# Altium schematic symbol library Remoschlib.SchLib: 3 symbols
Pins are listed as number, name and electrical type; pins without a type are passive.

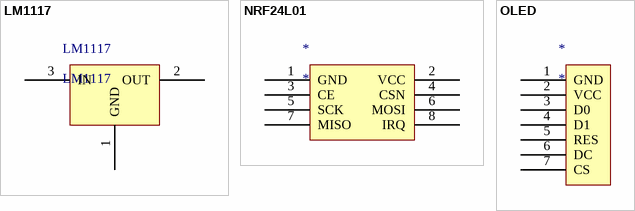
[diagram p0: symbols LM1117 to OLED]

## LM1117
designator LM1117
线性稳压3.3V
pins: 1 GND, 2 OUT, 3 IN

## NRF24L01
designator *
pins: 1 GND, 2 VCC, 3 CE, 4 CSN, 5 SCK, 6 MOSI, 7 MISO, 8 IRQ

## OLED
designator *
pins: 1 GND, 2 VCC, 3 D0, 4 D1, 5 RES, 6 DC, 7 CS